# EAGLE library part STM32F407VGT6 (library stm32f407vgt6)
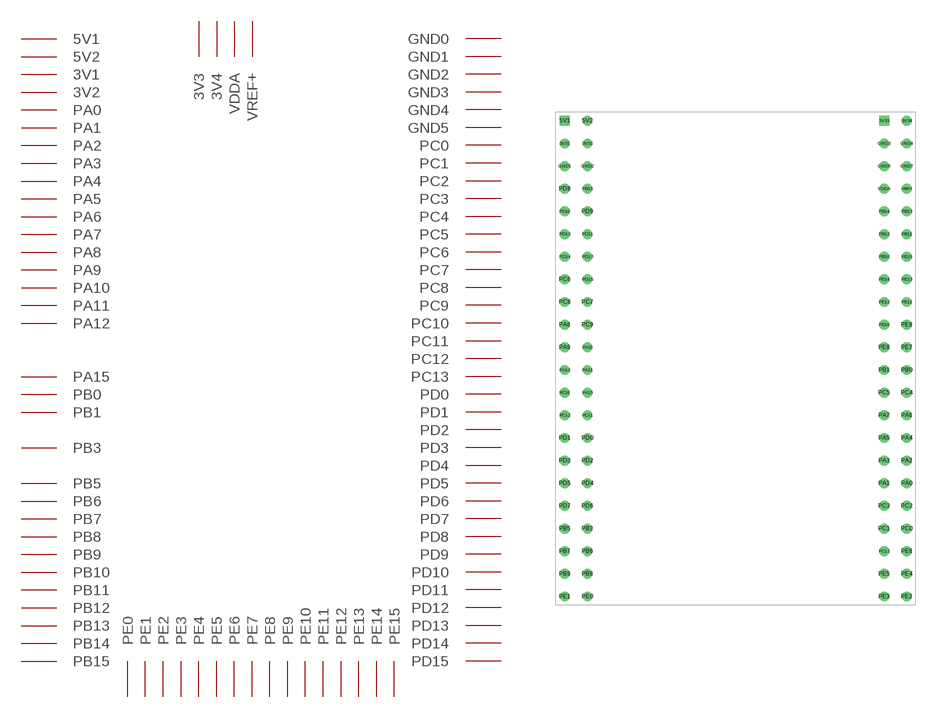
[diagram p0: symbol with the pads of STM32F407VGT6; footprint STM32F407VGT6]

Designator prefix -

## STM32F407VGT6  [STM32F407VGT6]
3V31  3V1
3V32  3V2
3V33  3V3
3V34  3V4
5V1  5V1
5V2  5V2
GND1  GND0
GND2  GND1
GND3  GND2
GND4  GND3
GND5  GND4
GND7  GND5
PA0  PA0
PA1  PA1
PA2  PA2
PA3  PA3
PA4  PA4
PA5  PA5
PA6  PA6
PA7  PA7
PA8  PA8
PA9  PA9
PA10  PA10
PA11  PA11
PA12  PA12
PA15  PA15
PB0  PB0
PB1  PB1
PB3  PB3
PB5  PB5
PB6  PB6
PB7  PB7
PB8  PB8
PB9  PB9
PB10  PB10
PB11  PB11
PB12  PB12
PB13  PB13
PB14  PB14
PB15  PB15
PC0  PC0
PC1  PC1
PC2  PC2
PC3  PC3
PC4  PC4
PC5  PC5
PC6  PC6
PC7  PC7
PC8  PC8
PC9  PC9
PC10  PC10
PC11  PC11
PC12  PC12
PC13  PC13
PD0  PD0
PD1  PD1
PD2  PD2
PD3  PD3
PD4  PD4
PD5  PD5
PD6  PD6
PD7  PD7
PD8  PD8
PD9  PD9
PD10  PD10
PD11  PD11
PD12  PD12
PD13  PD13
PD14  PD14
PD15  PD15
PE0  PE0
PE1  PE1
PE2  PE2
PE3  PE3
PE4  PE4
PE5  PE5
PE6  PE6
PE7  PE7
PE8  PE8
PE9  PE9
PE10  PE10
PE11  PE11
PE12  PE12
PE13  PE13
PE14  PE14
PE15  PE15
VDDA  VDDA
VREF+  VREF+

## Footprint STM32F407VGT6 (pad centres in mm)
drill 0.6: 3V31 0,-2.54; 3V32 2.54,-2.54; 3V34 38.34,0; 5V2 2.54,0; GND1 0,-5.08; GND2 2.54,-5.08; GND3 35.8,-2.54; GND4 38.34,-2.54; GND5 35.8,-5.08; GND7 38.34,-5.08; PA0 38.34,-40.64; PA1 35.8,-40.64; PA2 38.34,-38.1; PA3 35.8,-38.1; PA4 38.34,-35.56; PA5 35.8,-35.56; PA6 38.34,-33.02; PA7 35.8,-33.02; PA8 0,-22.86; PA9 0,-25.4; PA10 2.54,-25.4; PA11 2.54,-27.94; PA12 0,-27.94; PA15 2.54,-30.48; PB0 38.34,-27.94; PB1 35.8,-27.94; PB3 2.54,-45.72; PB5 0,-45.72; PB6 2.54,-48.26; PB7 0,-48.26; PB8 2.54,-50.8; PB9 0,-50.8; PB10 35.8,-15.24; PB11 38.34,-12.7; PB12 35.8,-12.7; PB13 38.34,-10.16; PB14 35.8,-10.16; PB15 2.54,-7.62; PC0 38.34,-45.72; PC1 35.8,-45.72; PC2 38.34,-43.18; PC3 35.8,-43.18; PC4 38.34,-30.48; PC5 35.8,-30.48; PC6 0,-17.78; PC7 2.54,-20.32; PC8 0,-20.32; PC9 2.54,-22.86; PC10 0,-30.48; PC11 2.54,-33.02; PC12 0,-33.02; PC13 35.8,-48.26; PD0 2.54,-35.56; PD1 0,-35.56; PD2 2.54,-38.1; PD3 0,-38.1; PD4 2.54,-40.64; PD5 0,-40.64; PD6 2.54,-43.18; PD7 0,-43.18; PD8 0,-7.62; PD9 2.54,-10.16; PD10 0,-10.16; PD11 2.54,-12.7; PD12 0,-12.7; PD13 2.54,-15.24; PD14 0,-15.24; PD15 2.54,-17.78; PE0 2.54,-53.34; PE1 0,-53.34; PE2 38.34,-53.34; PE3 35.8,-53.34; PE4 38.34,-50.8; PE5 35.8,-50.8; PE6 38.34,-48.26; PE7 38.34,-25.4; PE8 35.8,-25.4; PE9 38.34,-22.86; PE10 35.8,-22.86; PE11 38.34,-20.32; PE12 35.8,-20.32; PE13 38.34,-17.78; PE14 35.8,-17.78; PE15 38.34,-15.24; VDDA 35.8,-7.62; VREF+ 38.34,-7.62
drill 0.6 square: 3V33 35.8,0; 5V1 0,0